# Altium schematic symbol library USB.SchLib: 4 symbols
Pins are listed as number, name and electrical type; pins without a type are passive.

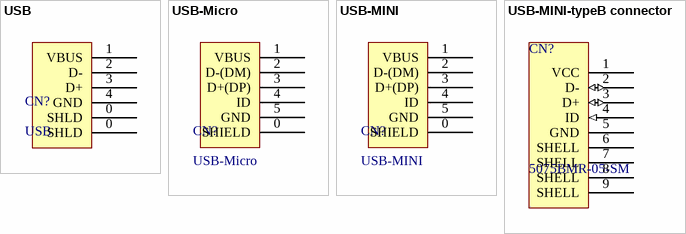
[diagram p0: symbols USB to USB-MINI-typeB connector]

## USB
designator CN?
USB A/B FEAML/MALE
footprint USB-A
footprint USB-B
footprint USB/SM0.8-6H5 (Connector; USB2.0, Type B, SM; 5 Position; Right Angle)
footprint USB-SM-A
footprint USB-MICRO-AB
pins: 0 SHLD, 0 SHLD, 1 VBUS, 2 D-, 3 D+, 4 GND

## USB-Micro
designator CN?
footprint USB_MICRO_5S_B (USB Micro SMT 5S B)
footprint USB-MICRO-Female-Lite (Connector; USB2.0, Type B, SM; 5 Position; Right Angle)
pins: 0 SHIELD, 1 VBUS, 2 D-(DM), 3 D+(DP), 4 ID, 5 GND

## USB-MINI
designator CN?
footprint USB-Mini-B-Female-SM (Connector; USB2.0, Type B, SM; 5 Position; Right Angle)
pins: 0 SHIELD, 1 VBUS, 2 D-(DM), 3 D+(DP), 4 ID, 5 GND

## USB-MINI-typeB connector
designator CN?, comment 5075BMR-05-SM
USB-MINI-typeB connector; Manuf_Part_1: 5075BMR-05-SM; Order: 5075BMR-05-SM; ECCN: ????
footprint USB-MINI-B-SMD
footprint USB-B
pins: 1 VCC (power), 2 D- (io), 3 D+ (io), 4 ID (in), 5 GND (power), 6 SHELL (power), 7 SHELL (power), 8 SHELL (power), 9 SHELL (power)